# Altium footprint library power.PcbLib: 38 footprints (part 3 of 3)
Each footprint in its own frame and in the unit in brackets; x right, y up, seen from the top. Pads: shape width x height; smd on the part's side, far side on the other; paste and mask are expansions set on the pad; w line width, h text height; cw(c..) or ccw(c..) is an arc to the next point about the centre after c.
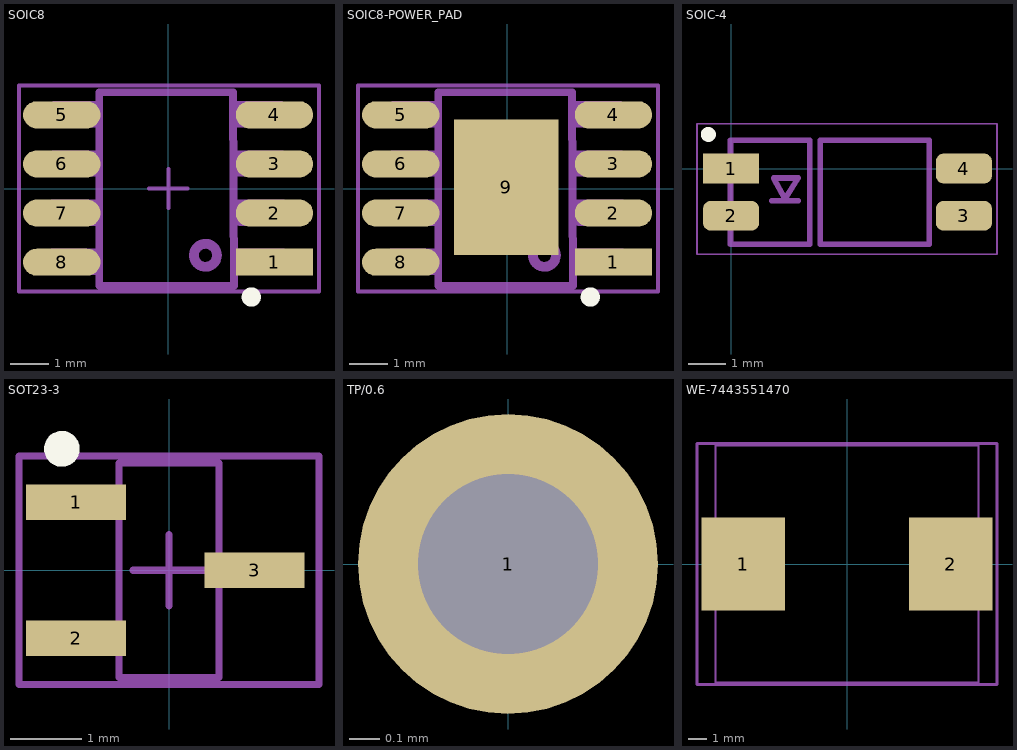
[diagram p2: the footprints below, top view; thin cyan lines are the x and y axes]

## SOIC8 [mm] "8-Pin Small Outline Integrated Circuit 1.27 mm Pitch, IPC Low Density"
height 1.75
pads (8):
  rect 2x0.7 smd: 1(2.749,-1.905)
  oval 2x0.7 smd: 2(2.749,-0.635) 3(2.749,0.635) 4(2.749,1.905) 5(-2.749,1.905) 6(-2.749,0.635) 7(-2.749,-0.635) 8(-2.749,-1.905)
Top Overlay:
  circle w0.25: c2.151,-2.805 r0.125
Top 3D Body:
  circle w0.254: c0.965,-1.727 r0.297
  lines w0.2: -2.565,-2.083 -2.565,-1.651 ; -2.565,-0.813 -2.565,-0.381 ; -2.54,0.457 -2.54,0.889 ; -2.515,1.727 -2.515,2.159 ; -1.88,-2.134 -2.997,-2.134 -2.997,-1.651 -1.829,-1.651 ; -1.88,-0.864 -2.997,-0.864 -2.997,-0.381 -1.829,-0.381 ; -1.854,0.406 -2.972,0.406 -2.972,0.889 -1.803,0.889 ; -1.829,1.676 -2.946,1.676 -2.946,2.159 -1.778,2.159 ; -1.778,2.489 -1.778,-2.515 1.702,-2.515 1.676,2.489 -1.753,2.489 ; 1.753,2.159 2.921,2.159 2.921,1.676 1.803,1.676 ; 1.778,0.889 2.946,0.889 2.946,0.406 1.829,0.406 ; 1.803,-1.651 2.972,-1.651 2.972,-2.134 1.854,-2.134 ; 1.803,-0.381 2.972,-0.381 2.972,-0.864 1.854,-0.864 ; 2.489,1.727 2.489,2.159 ; 2.515,0.457 2.515,0.889 ; 2.54,-2.083 2.54,-1.651 ; 2.54,-0.813 2.54,-0.381
Top Courtyard:
  lines w0.1: -0.494,0 0.506,0 ; 0.006,-0.5 0.006,0.5 ; -3.855,-2.667 3.901,-2.667 3.901,2.667 -3.855,2.667 -3.855,-2.667
Top Designator:
  text ".Designator" at -7.595,-0.677 h1.52
3D body "SOIC-8.STEP": height 1.75, standoff 0, extent -2.966,-2.5 3.045,2.5

## SOIC8-POWER_PAD [mm] "8-Pin Small Outline Integrated Circuit 1.27 mm Pitch, IPC Low Density"
height 1.75
pads (9):
  rect 2x0.7 smd: 1(2.749,-1.905)
  oval 2x0.7 smd: 2(2.749,-0.635) 3(2.749,0.635) 4(2.749,1.905) 5(-2.749,1.905) 6(-2.749,0.635) 7(-2.749,-0.635) 8(-2.749,-1.905)
  rect 2.7x3.5 smd paste-1.6: 9(-0.027,0.031)
Top Overlay:
  circle w0.25: c2.151,-2.805 r0.125
Top 3D Body:
  circle w0.254: c0.965,-1.727 r0.297
  lines w0.2: -2.565,-2.083 -2.565,-1.651 ; -2.565,-0.813 -2.565,-0.381 ; -2.54,0.457 -2.54,0.889 ; -2.515,1.727 -2.515,2.159 ; -1.88,-2.134 -2.997,-2.134 -2.997,-1.651 -1.829,-1.651 ; -1.88,-0.864 -2.997,-0.864 -2.997,-0.381 -1.829,-0.381 ; -1.854,0.406 -2.972,0.406 -2.972,0.889 -1.803,0.889 ; -1.829,1.676 -2.946,1.676 -2.946,2.159 -1.778,2.159 ; -1.778,2.489 -1.778,-2.515 1.702,-2.515 1.676,2.489 -1.753,2.489 ; 1.753,2.159 2.921,2.159 2.921,1.676 1.803,1.676 ; 1.778,0.889 2.946,0.889 2.946,0.406 1.829,0.406 ; 1.803,-1.651 2.972,-1.651 2.972,-2.134 1.854,-2.134 ; 1.803,-0.381 2.972,-0.381 2.972,-0.864 1.854,-0.864 ; 2.489,1.727 2.489,2.159 ; 2.515,0.457 2.515,0.889 ; 2.54,-2.083 2.54,-1.651 ; 2.54,-0.813 2.54,-0.381
Top Courtyard:
  lines w0.1: -0.494,0 0.506,0 ; 0.006,-0.5 0.006,0.5 ; -3.855,-2.667 3.901,-2.667 3.901,2.667 -3.855,2.667 -3.855,-2.667
Top Designator:
  text ".Designator" at -3.476,-0.402 h0.7
3D body "SOIC-8.STEP": height 1.75, standoff 0, extent -2.966,-2.5 3.046,2.5

## SOIC-4 [mm]
pads (4):
  rect 1.5x0.8 smd: 1(0,0)
  rrect50% 1.5x0.8 smd: 2(0,-1.27) 3(6.25,-1.27) 4(6.25,0)
Top Overlay:
  circle w0.2: c-0.61,0.914 r0.1
Top 3D Body:
  lines w0.152: 1.092,-0.864 1.803,-0.864 ; -0.017,-2.032 2.11,-2.032 2.11,-1.925 2.11,0.762 -0.017,0.762 -0.017,-2.032 ; 1.143,-0.254 1.448,-0.813 1.803,-0.254 1.143,-0.254 ; 2.396,-2.032 2.396,0.762 5.317,0.762 5.317,-2.032 2.396,-2.032
Top Courtyard:
  lines w0.05: -0.914,-2.3 7.137,-2.3 7.137,1.2 -0.914,1.2 -0.914,-2.3
3D body "SOIC-4.STEP": height 2.1, standoff 0.01, extent -0.401,-1.935 6.599,0.665

## SOT23-3 [mm] "SOT23, 3-Leads, Body 3.0x2.6mm (max), Pitch 0.95mm, IPC Low Density"
height 1.1
pads (3):
  rect 1.4x0.5 smd: 1(-1.3,0.95) 2(-1.3,-0.95) 3(1.2,0)
Top Overlay:
  circle w0.25: c-1.5,1.7 r0.125
Top 3D Body:
  lines w0.1: -0.7,-1.5 0.7,-1.5 0.7,1.5 -0.7,1.5 -0.7,-1.5
Top Courtyard:
  lines w0.1: -0.5,0 0.5,0 ; 0,-0.5 0,0.5 ; -2.1,-1.6 2.1,-1.6 2.1,1.6 -2.1,1.6 -2.1,-1.6
Top Designator:
  text ".Designator" at -3.499,-0.233 h0.7
3D body "SOT23-3.STEP": height 1.46, standoff 0, extent -1.575,-1.501 1.422,1.499

## TP/0.6 [mm]
pads (1):
  round 1 hole 0.6: 1(0,0)
Top Designator:
  text ".Designator" at -7.618,-0.508 h1.52

## WE-7443551470 [mm] "Inductor"
pads (2):
  rect 4.5x5 smd: 1(-5.6,0) 2(5.6,0)
Top 3D Body:
  lines w0.127: -7.1,-6.4 7.1,-6.4 7.1,6.4 -7.1,6.4 -7.1,-6.4
Top Courtyard:
  lines w0.15: -8.1,-6.5 8.1,-6.5 8.1,6.5 -8.1,6.5 -8.1,-6.5
Top Designator:
  text ".Designator" at -7.618,-0.508 h1.52
3D body "744355122_Download_STP_WE-HCI-1365_rev1.stp": height 6.34, standoff 0.14, extent -7.1,-6.4 7.1,6.4